# EAGLE library part RT424A (library parts)
Relay DPDT DPDT relay 8A contact 5V coil
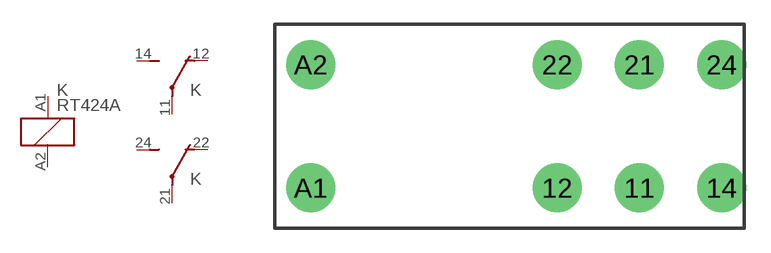
[diagram p0: symbol with the pads of RELAY_RT2; footprint RELAY_RT2]

Designator prefix K; gates 1=RELAY-COIL 2=RELAY-CONTACT_DT 3=RELAY-CONTACT_DT

## RT424A05 (MPN: RT424A05; OC_FARNELL: unknown; OC_NEWARK: 48M7975)  [RELAY_RT2]
11  2:P  pas
12  2:O  pas
14  2:S  pas
21  3:P  pas
22  3:O  pas
24  3:S  pas
A1  1:1  pas
A2  1:2  pas

## Footprint RELAY_RT2 (pad centres in mm)
Power PCB Relay DC and AC-coil 2 pole 8 A
drill 1.2 pad 3: 11 7.56,-3.68; 12 2.52,-3.68; 14 12.6,-3.68; 21 7.56,3.88; 22 2.52,3.88; 24 12.6,3.88; A1 -12.6,-3.68; A2 -12.6,3.88